# Altium footprint library PXHK.PCBLIB: 44 footprints (part 3 of 3)
Each footprint in its own frame and in the unit in brackets; x right, y up, seen from the top. Pads: shape width x height; smd on the part's side, far side on the other; paste and mask are expansions set on the pad; w line width, h text height; cw(c..) or ccw(c..) is an arc to the next point about the centre after c.
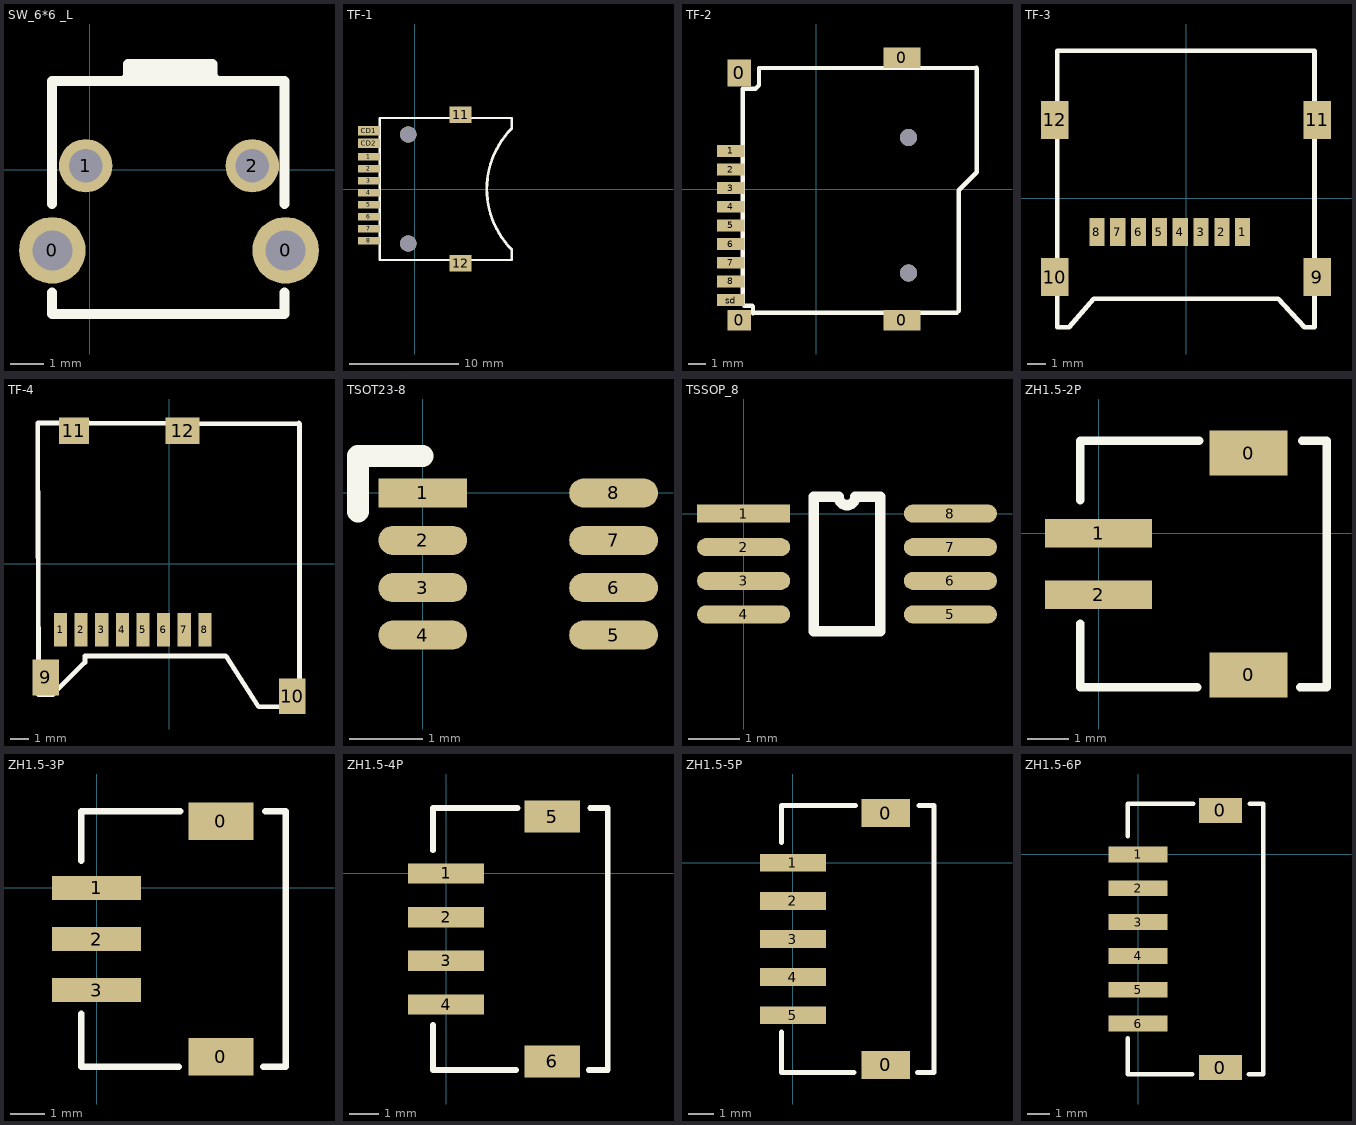
[diagram p2: the footprints below, top view; thin cyan lines are the x and y axes]

## SW_6*6 _L [mm]
pads (4):
  round 2 hole 1.2: 0(-1.127,-2.413) 0(5.873,-2.413)
  round 1.6 hole 1: 1(-0.127,0.127) 2(4.873,0.127)
Top Overlay:
  lines w0.3: -1.143,-3.683 -1.143,-4.318 5.842,-4.318 5.842,-3.683 ; -1.143,-1.016 -1.143,2.667 5.842,2.667 5.842,-1.016 ; 1.016,2.667 1.143,2.794 1.143,3.175 3.683,3.175 3.683,2.667 ; 1.143,2.921 3.683,2.921 3.683,2.794 3.81,2.667

## TF-1 [mm]
pads (14):
  rect 2x0.7 smd: 1(-4.2,2.95) 2(-4.2,1.85) 3(-4.2,0.75) 4(-4.2,-0.35) 5(-4.2,-1.45) 6(-4.2,-2.55) 7(-4.2,-3.65) 8(-4.2,-4.75)
  rect 2x1.5 smd: 11(4.2,6.82) 12(4.2,-6.82)
  rect 2x0.85 smd: CD1(-4.2,5.35) CD2(-4.2,4.2)
  round 1.5 hole 1.5 unplated: ""(-0.6,-5)
  round 1.5 hole 1.5: ""(-0.6,5)
Top Overlay:
  lines w0.2: 8.9,-5.55 8.9,-6.515 -3.2,-6.515 -3.2,6.515 8.9,6.515 8.9,5.55
  lines w0.254: 8.9,-5.55 cw(c14.45,0) 8.9,5.55

## TF-2 [mm]
pads (13):
  rect 1.4x1.2 smd: 0(-4.55,-7.75)
  rect 1.4x1.6 smd: 0(-4.55,6.85)
  rect 2.2x1.2 smd: 0(5.05,-7.75) 0(5.05,7.75)
  rect 1.6x0.7 smd: 1(-5.05,2.25) 2(-5.05,1.15) 3(-5.05,0.05) 4(-5.05,-1.05) 5(-5.05,-2.15) 6(-5.05,-3.25) 7(-5.05,-4.35) 8(-5.05,-5.45) sd(-5.05,-6.55)
via 5.45,-4.95 diameter 1 hole 1
via 5.45,3.05 diameter 1 hole 1
Top Overlay:
  lines w0.254: -3.738,-7.344 -3.738,-6.937 -3.789,-6.886 -4.246,-6.886 -4.348,-6.785 -4.348,5.915 -3.586,5.915 -3.383,6.118 -3.383,7.134 9.45,7.15 ; -3.688,-7.293 8.301,-7.293 8.403,-7.191 8.403,-0.079 9.47,0.988 9.47,7.13

## TF-3 [mm]
pads (12):
  rect 0.8x1.5 smd: 1(2.993,-1.772) 2(1.893,-1.772) 3(0.793,-1.772) 4(-0.307,-1.772) 5(-1.407,-1.772) 6(-2.507,-1.772) 7(-3.607,-1.772) 8(-4.707,-1.772)
  rect 1.45x2 smd: 9(6.925,-4.15) 10(-6.925,-4.15) 11(6.925,4.15) 12(-6.925,4.15)
Top Overlay:
  lines w0.254: -6.805,-6.8 -6.805,7.8 6.795,7.8 6.795,-6.8 6.264,-6.8 4.865,-5.3 -4.875,-5.3 -6.182,-6.8 -6.805,-6.8

## TF-4 [mm]
pads (12):
  rect 0.7x1.8 smd: 1(-5.785,-3.525) 2(-4.685,-3.525) 3(-3.585,-3.525) 4(-2.485,-3.525) 5(-1.385,-3.525) 6(-0.285,-3.525) 7(0.815,-3.525) 8(1.915,-3.525)
  rect 1.4x1.9 smd: 9(-6.575,-6.075) 10(6.575,-7.075)
  rect 1.6x1.4 smd: 11(-5.075,7.075)
  rect 1.8x1.4 smd: 12(0.725,7.075)
Top Overlay:
  lines w0.254: -4.261,7.499 -7.004,7.499 ; 6.864,7.448 -7.004,7.499 ; 6.915,7.499 6.966,7.448 6.966,-7.64 ; 7.017,-7.589 6.966,-7.64 ; -7.004,7.499 -6.953,-6.979 -6.191,-6.979 -4.485,-5.273 -4.485,-4.925 2.935,-4.925 3.032,-4.925 4.781,-7.64 6.966,-7.64

## TSOT23-8 [mm]
pads (8):
  rect 1.22x0.4 smd: 1(0,0)
  oval 1.22x0.4 smd: 2(0,-0.65) 3(0,-1.3) 4(0,-1.95) 5(2.62,-1.95) 6(2.62,-1.3) 7(2.62,-0.65) 8(2.62,0)
Top Overlay:
  lines w0.3: -0.889,-0.254 -0.889,0.508 0,0.508

## TSSOP_8 [mm]
pads (8):
  rect 1.8x0.35 smd: 1(0,0)
  oval 1.8x0.35 smd: 2(0,-0.65) 3(0,-1.3) 4(0,-1.95) 5(4,-1.95) 6(4,-1.3) 7(4,-0.65) 8(4,0)
Top Overlay:
  lines w0.2: 1.354,-2.275 1.354,0.325 1.837,0.325 ccw(c2,0.325) 2.162,0.325 2.646,0.325 2.646,-2.275 1.354,-2.275

## ZH1.5-2P [mm]
pads (4):
  rect 1.9x1.1 smd: 0(3.65,-3.45) 0(3.65,1.95)
  rect 2.6x0.7 smd: 1(0,0) 2(0,-1.5)
Top Overlay:
  lines w0.2: -0.45,-2.2 -0.45,-3.75 2.4,-3.75 ; -0.45,0.8 -0.45,2.25 2.45,2.25 ; 4.9,-3.75 5.55,-3.75 5.55,2.25 4.95,2.25

## ZH1.5-3P [mm]
pads (5):
  rect 1.9x1.1 smd: 0(3.65,-4.95) 0(3.65,1.95)
  rect 2.6x0.7 smd: 1(0,0) 2(0,-1.5) 3(0,-3)
Top Overlay:
  lines w0.2: -0.45,-3.7 -0.45,-5.25 2.4,-5.25 ; -0.45,0.8 -0.45,2.25 2.45,2.25 ; 4.9,-5.25 5.55,-5.25 5.55,2.25 4.95,2.25

## ZH1.5-4P [mm]
pads (6):
  rect 2.6x0.7 smd: 1(0,0) 2(0,-1.5) 3(0,-3) 4(0,-4.5)
  rect 1.9x1.1 smd: 5(3.65,1.95) 6(3.65,-6.45)
Top Overlay:
  lines w0.2: -0.45,-5.2 -0.45,-6.75 2.4,-6.75 ; -0.45,0.8 -0.45,2.25 2.45,2.25 ; 4.9,-6.75 5.55,-6.75 5.55,2.25 4.95,2.25

## ZH1.5-5P [mm]
pads (7):
  rect 1.9x1.1 smd: 0(3.65,-7.95) 0(3.65,1.95)
  rect 2.6x0.7 smd: 1(0,0) 2(0,-1.5) 3(0,-3) 4(0,-4.5) 5(0,-6)
Top Overlay:
  lines w0.2: -0.45,-6.65 -0.45,-8.25 2.4,-8.25 ; -0.45,0.8 -0.45,2.25 2.45,2.25 ; 4.9,-8.25 5.55,-8.25 5.55,2.25 4.95,2.25

## ZH1.5-6P [mm]
pads (8):
  rect 1.9x1.1 smd: 0(3.65,-9.45) 0(3.65,1.95)
  rect 2.6x0.7 smd: 1(0,0) 2(0,-1.5) 3(0,-3) 4(0,-4.5) 5(0,-6) 6(0,-7.5)
Top Overlay:
  lines w0.2: -0.45,-8.15 -0.45,-9.75 2.4,-9.75 ; -0.45,0.8 -0.45,2.25 2.45,2.25 ; 4.9,-9.75 5.55,-9.75 5.55,2.25 4.95,2.25